# Altium schematic symbol library ColumbusEnergy.SchLib: 1 symbol
Pins are listed as number, name and electrical type; pins without a type are passive.

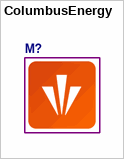
[diagram p0: symbol ColumbusEnergy]

## ColumbusEnergy
designator M?  (value not drawn)  (no BOM)
Manufacturer Part Number: MMBTXXX